# EAGLE library part LM5134-SOT (library ruark2)
Low-Side Gate Driver IC Inverting, Non-Inverting SOT-23-6 7.6A
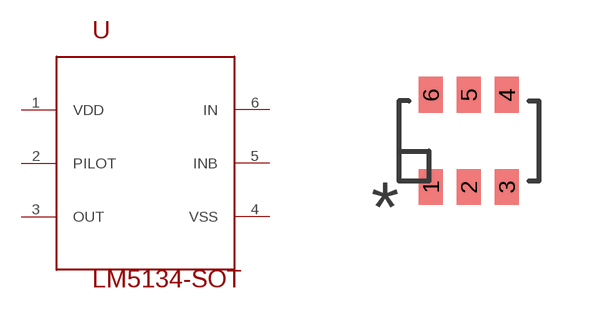
[diagram p56: symbol with the pads of SOT23-6; footprint SOT23-6]

Designator prefix U

## LM5134-SOT (PARTNO: 296-40244-1-ND)  [SOT23-6]
1  VDD
2  PILOT
3  OUT
4  VSS
5  INB
6  IN

## Footprint SOT23-6 (pad centres in mm)
smd 0.6 x 0.9: 1 -0.95,-1.15; 2 0,-1.15; 3 0.95,-1.15; 4 0.95,1.15; 5 0,1.15; 6 -0.95,1.15